# Altium integrated library cs301_11.IntLib: 18 symbols
Pins are listed as number, name and electrical type; pins without a type are passive.

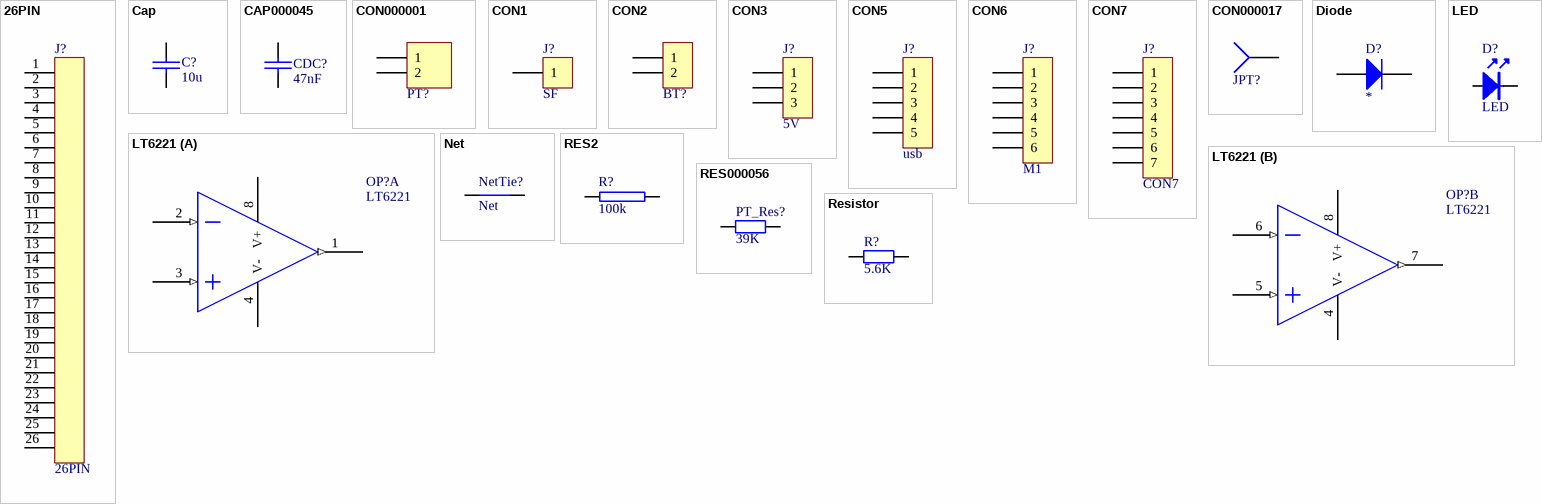
[diagram p0: symbols 26PIN to Resistor]

## 26PIN
designator J?
footprint SIP26
pins: 1, 2, 3, 4, 5, 6, 7, 8, 9, 10, 11, 12, 13, 14, 15, 16, 17, 18, 19, 20, 21, 22, 23, 24, 25, 26

## Cap
designator C?, comment 10u
Capacitor; Value: *
pins: 1, 2

## CAP000045
designator CDC?, comment 47nF
CAP CER 47nF 50V TH; Manufactuer: Murata; Manufacturer-PN: RHEL81H473K1K1A03B; UoA Stock#: CAP000045; Assembly Method: Through hole; Item Type: Item; Path: ece/ts/Lists/Stock Inventory; Value: 47nF; Size/Package: Radial; Voltage/Current: 50V; Datasheet Link: http://share.engineering.auckland.ac.nz/ece/ts/Student%20Documents/CAP-Murata-L0010E.pdf; Supplier1: Electus; Supplier1-PN: ER5356; Component Type: NA; Category: Capacitor; Review-date: 41972; Status: Active
footprint ECE-CAPR0.2x0.1TH
pins: 1, 2

## CON000001
designator PT?, comment 2 Way  (value not drawn)
HEADER POLARISED 2WAY TH; Manufactuer: GTK; Manufacturer-PN: 600102ST; UoA Stock#: CON000001; Assembly Method: Through hole; Item Type: Item; Path: ece/ts/Lists/Stock Inventory; Value: 2 Way; Size/Package: 2.54 Radial; Datasheet Link: http://share.engineering.auckland.ac.nz/ece/ts/Student%20Documents/polarised_connectors.pdf; Supplier1: Elecon; Supplier1-PN: YY3N02; Supplier2: Active Components; Supplier2-PN: 600102ST; Component Type: NA; Category: Connector; Status: Active
footprint ECE-600102STTH
pins: 1, 2

## CON1
designator J?, comment SF
Connector
footprint SIP1/0.6
pins: 1

## CON2
designator BT?, comment Battery  (value not drawn)
Connector
footprint sip2
pins: 1, 2

## CON3
designator J?, comment 5V
Connector
footprint sip3
pins: 1, 2, 3

## CON5
designator J?, comment usb
Connector
footprint SIP5
pins: 1, 2, 3, 4, 5

## CON6
designator J?, comment M1
Connector
footprint sip6
pins: 1, 2, 3, 4, 5, 6

## CON7
designator J?
Connector
footprint SIP7
pins: 1, 2, 3, 4, 5, 6, 7

## CON000017
designator JPT?, comment TEST PIN  (value not drawn)
UoA Stock#: CON000017; Value: 1 way; Assembly Method: Through hole; Item Type: Item; Path: ece/ts/Lists/Stock Inventory; Component Type: NA; Category: Connector; Status: Active
footprint ECE-HDR1TH
pins: 1

## Diode
designator D?
Diode; Value: *
pins: 1 A, 2 K

## LED
designator D?
footprint Model Name (Footprint not found)
footprint LED0.1/5MM
pins: A 1, K 2

## LT6221
designator OP?
pins on every part: 4 V- (power), 8 V+ (power)
part A pins: 1 OUT1 (out), 2 IN1(-) (in), 3 IN1(+) (in)
part B pins: 5 IN2(+) (in), 6 IN2(-) (in), 7 OUT2 (out)

## Net
designator NetTie?  (net tie, no BOM)
pins: 1, 2

## RES2
designator R?, comment 100k
footprint AXIAL0.4
pins: 1, 2

## RES000056
designator PT_Res?, comment 39K
RES MF 39K TH; UoA Stock#: RES000056; Assembly Method: Through hole; Voltage/Current: 0.6W; Item Type: Item; Path: ece/ts/Lists/Stock Inventory; Value: 39K; Size/Package: Axial 10mm; Supplier1: Active components; Supplier1-PN: T184037; Component Type: NA; Category: Resistor; Status: Active
footprint ECE-RESA0.4TH
pins: 1, 2

## Resistor
designator R?, comment 5.6K
Resistor; Value: *
pins: 1, 2